# Altium integrated library ICs.IntLib: 27 symbols
Pins are listed as number, name and electrical type; pins without a type are passive.

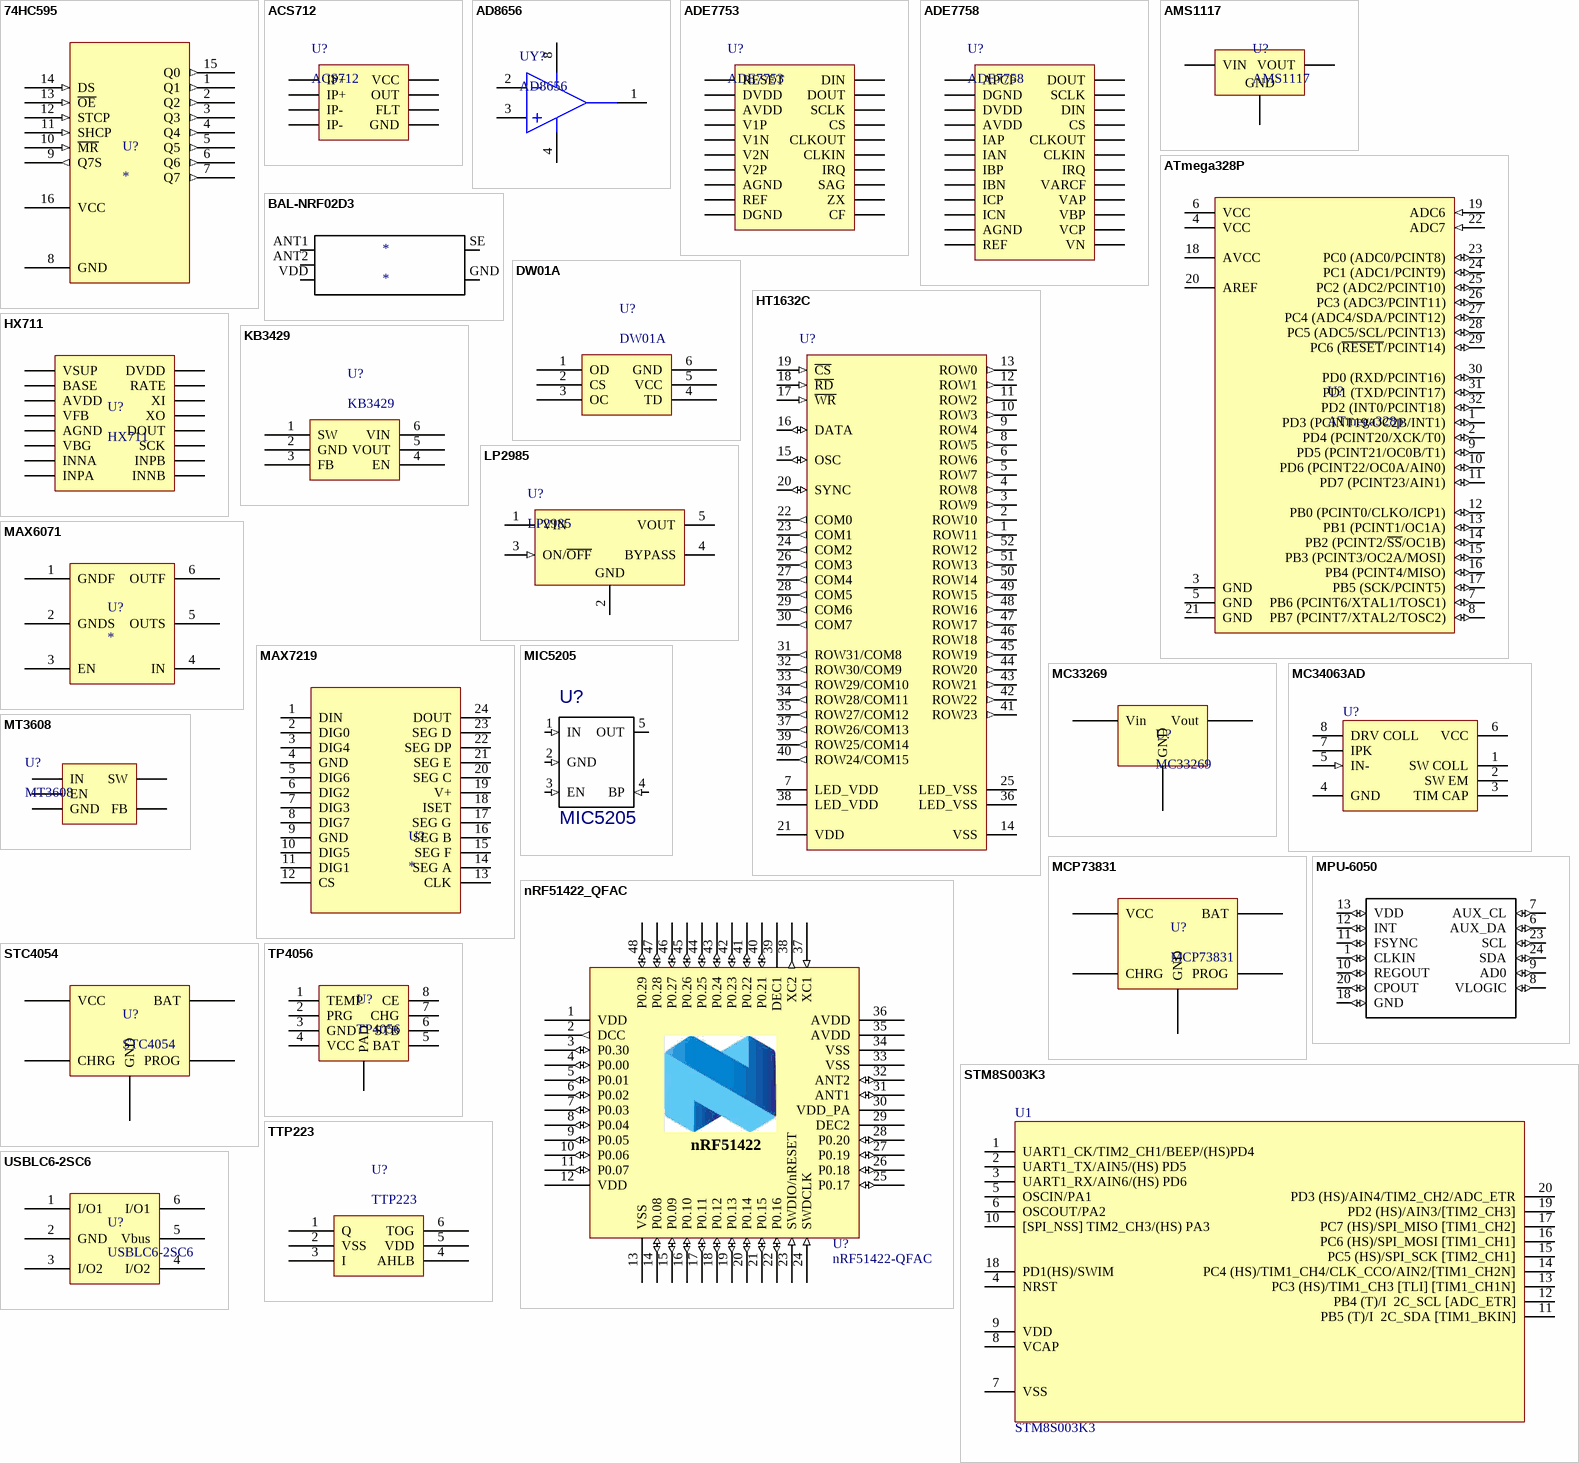
[diagram p0: symbols 74HC595 to USBLC6-2SC6]

## 74HC595
designator U?
Shift register
footprint TSOP-16 M (TSOP, 16-Leads, Body 5.00x4.40mm, Pitch 0.65mm, IPC Low Density)
pins: 1 Q1 (out), 2 Q2 (out), 3 Q3 (out), 4 Q4 (out), 5 Q5 (out), 6 Q6 (out), 7 Q7 (out), 8 GND (power), 9 Q7S (out), 10 ~{MR} (in), 11 SHCP (in), 12 STCP (in), 13 ~{OE} (in), 14 DS (in), 15 Q0 (out), 16 VCC (power)

## ACS712
designator U?
Current sensor based on Hall effect
footprint SOIC-8 N (SOIC, 8-Leads, Body 4.9x3.9mm, Pitch 1.27mm, IPC Medium Density)
pins: 1 IP+, 2 IP+, 3 IP-, 4 IP-, 5 GND, 6 FLT, 7 OUT, 8 VCC

## AD8656
designator UY?
Ultrafast, Single-Supply Comparator, 3 to 5 V, 5.5 ns Delay, Industrial, 8-pin SOIC (R-8), Reel
footprint SOIC-8 N (SOIC, 8-Leads, Body 4.9x3.9mm, Pitch 1.27mm, IPC Medium Density)
pins: 1 Out A "One of Two Complementary Output for Channel A.", 2 -IN A "Inverting Analog Input of the Differential Input Stage.", 3 +IN A "Noninverting Analog Input of the Differential Input Stage.", 4 V- (power) "Negative Logic Supply", 8 V+ (power) "Positive Supply Terminal."

## ADE7753
designator U?
Single phase power measuring IC
footprint TSSOP-20 L (TSOP, 20-Leads, Body 6.5x4.4mm, Pitch 0.65mm, IPC High Density)
pins: 1 RESET, 2 DVDD, 3 AVDD, 4 V1P, 5 V1N, 6 V2N, 7 V2P, 8 AGND, 9 REF, 10 DGND, 11 CF, 12 ZX, 13 SAG, 14 IRQ, 15 CLKIN, 16 CLKOUT, 17 CS, 18 SCLK, 19 DOUT, 20 DIN

## ADE7758
designator U?
3-phase power measuring IC
footprint SOIC-24 N wide (SOIC, 24-Leads, Body 15.4x7.5mm, Pitch 1.27mm, IPC Low Density)
pins: 1 APCF, 2 DGND, 3 DVDD, 4 AVDD, 5 IAP, 6 IAN, 7 IBP, 8 IBN, 9 ICP, 10 ICN, 11 AGND, 12 REF, 13 VN, 14 VCP, 15 VBP, 16 VAP, 17 VARCF, 18 IRQ, 19 CLKOUT, 20 CLKIN, 21 CS, 22 DIN, 23 SCLK, 24 DOUT

## AMS1117
designator U?
Linear voltage stabiliser ic
footprint SOT223 N (SOT223, 4-Leads, Body 6.5x3.5mm, Pitch 2.3mm, IPC Low Density)
pins: 1 GND (power), 2 VOUT (power), 3 VIN (power)
1 alternate drawing of the same symbol

## ATmega328P
designator U?, comment ATmega328p
Atmel AVR MCU 32kb flash, 2kb RAM
footprint TQFP-32 M (Thin QFP, 32-Leads, Body 7x7mm, Pitch 0.8mm, IPC Low Density)
pins: 1 PD3 (PCINT19/OC2B/INT1) (io), 2 PD4 (PCINT20/XCK/T0) (io), 3 GND (power), 4 VCC (power), 5 GND (power), 6 VCC (power), 7 PB6 (PCINT6/XTAL1/TOSC1) (io), 8 PB7 (PCINT7/XTAL2/TOSC2) (io), 9 PD5 (PCINT21/OC0B/T1) (io), 10 PD6 (PCINT22/OC0A/AIN0) (io), 11 PD7 (PCINT23/AIN1) (io), 12 PB0 (PCINT0/CLKO/ICP1) (io), 13 PB1 (PCINT1/OC1A) (io), 14 PB2 (PCINT2/~{SS}/OC1B) (io), 15 PB3 (PCINT3/OC2A/MOSI) (io), 16 PB4 (PCINT4/MISO) (io), 17 PB5 (SCK/PCINT5) (io), 18 AVCC (power), 19 ADC6 (in), 20 AREF, 21 GND (power), 22 ADC7 (in), 23 PC0 (ADC0/PCINT8) (io), 24 PC1 (ADC1/PCINT9) (io), 25 PC2 (ADC2/PCINT10) (io), 26 PC3 (ADC3/PCINT11) (io), 27 PC4 (ADC4/SDA/PCINT12) (io), 28 PC5 (ADC5/SCL/PCINT13) (io), 29 PC6 (~{RESET}/PCINT14) (io), 30 PD0 (RXD/PCINT16) (io), 31 PD1 (TXD/PCINT17) (io), 32 PD2 (INT0/PCINT18) (io)

## BAL-NRF02D3
designator *
Balun for NRF51422
footprint BAL-NRF02D3
pins: ANT1 (io), ANT2 (io), GND (io), SE (io), VDD VDD_PA (io)
1 alternate drawing of the same symbol

## DW01A
designator U?
li battery protection ic
footprint SOT23-6 N (SOT23, 6-Leads, Body 2,90x2,45mm, Pitch 0,95mm, IPC Medium Density)
pins: 1 OD, 2 CS (power), 3 OC, 4 TD, 5 VCC, 6 GND (power)

## HT1632C
designator U?
Led matrix driver24x16
footprint QFP-52 l (QFP, 52-Leads, Body 14x14mm, Pitch 1mm, IPC High Density)
footprint QFP-52 M (QFP, 52-Leads, Body 14x14mm, Pitch 1mm, IPC Low Density)
footprint QFP-52 N (QFP, 52-Leads, Body 14x14mm, Pitch 1mm, IPC Medium Density)
pins: 1 ROW11 (out), 2 ROW10 (out), 3 ROW9 (out), 4 ROW8 (out), 5 ROW7 (out), 6 ROW6 (out), 7 LED_VDD (power), 8 ROW5 (out), 9 ROW4 (out), 10 ROW3 (out), 11 ROW2 (out), 12 ROW1 (out), 13 ROW0 (out), 14 VSS (power), 15 OSC (io), 16 DATA (io), 17 ~{WR} (in), 18 ~{RD} (in), 19 ~{CS} (in), 20 SYNC (io), 21 VDD (power), 22 COM0 (out), 23 COM1 (out), 24 COM2 (out), 25 LED_VSS (power), 26 COM3 (out), 27 COM4 (out), 28 COM5 (out), 29 COM6 (out), 30 COM7 (out), 31 ROW31/COM8 (out), 32 ROW30/COM9 (out), 33 ROW29/COM10 (out), 34 ROW28/COM11 (out), 35 ROW27/COM12 (out), 36 LED_VSS (power), 37 ROW26/COM13 (out), 38 LED_VDD (power), 39 ROW25/COM14 (out), 40 ROW24/COM15 (out), 41 ROW23 (out), 42 ROW22 (out), 43 ROW21 (out), 44 ROW20 (out), 45 ROW19 (out), 46 ROW18 (out), 47 ROW17 (out), 48 ROW16 (out), 49 ROW15 (out), 50 ROW14 (out), 51 ROW13 (out), 52 ROW12 (out)

## HX711
designator U?
Scale sensor ADC
footprint SOP-16 N
pins: 1 VSUP, 2 BASE, 3 AVDD, 4 VFB, 5 AGND, 6 VBG, 7 INNA, 8 INPA, 9 INNB, 10 INPB, 11 SCK, 12 DOUT, 13 XO, 14 XI, 15 RATE, 16 DVDD

## KB3429
designator U?
(HXN-Xh) dc-dc step up
footprint SOT23-6 N (SOT23, 6-Leads, Body 2,90x2,45mm, Pitch 0,95mm, IPC Medium Density)
pins: 1 SW, 2 GND (power), 3 FB, 4 EN, 5 VOUT, 6 VIN (power)

## LP2985
designator U?
Single Output Low Noise LDO, 150 mA, Fixed 3.3 V Output, 2.2 to 16 V Input, with Low IQ, 5-pin SOT-23 (DBV), -40 to 125 degC, Green (RoHS & no Sb/Br); Manufacturer: Texas Instruments; PartNumber: LP2985-33DBVR; Accuracy(%): 1.5; Fixed Output Options(V): 10; Iout(Max)(A): 0.15; Iq(Typ)(mA): 0.85; SubFamily: Single Channel LDO; Vdo(Typ)(mV): 280; Vin(Max)(V): 16; Vin(Min)(V): 2.2; Vout Adj(Max)(V): 3.3; DatasheetVersion: SLVS522N; PackageVersion: 4073253-4/K; PackageReference: DBV5; PackageDescription: 5-Pin Plastic Small Outline, Body 1.60 Г— 2.90 mm, Pitch 0.95 mm; Supplier 1: Digi-Key; Supplier Part Number 1: 296-24263-1-ND; Supplier 2: Digi-Key; Supplier Part Number 2: 296-24263-6-ND; Supplier 3: Newark; Supplier Part Number 3: 24R9588; Supplier 4: Mouser; Supplier Part Number 4: 595-LP2985-33DBVR; Eco-Plan: Green (RoHS & no Sb/Br); Vout Adj(Min)(V): 3.3; Mounting Technology: Surface Mount; Code_JEDEC: MO-178; ComponentLink1Description: Manufacturer URL; ComponentLink1URL: http://www.ti.com/; ComponentLink2Description: Datasheet; ComponentLink2URL: http://www.ti.com/general/docs/lit/getliterature.tsp?genericPartNumber=LP2985-10&fileType=pdf; ComponentLink3Description: Package Specification; ComponentLink3URL: http://www.ti.com/litv/pdf/mpds018i
footprint TI-DBV5_N (SOT23, 5-Leads, Body 2.9x1.6mm, Pitch 0.95mm, IPC Medium Density)
footprint TI-DBV5_M (SOT23, 5-Leads, Body 2.9x1.6mm, Pitch 0.95mm, IPC Low Density)
footprint TI-DBV5_L (SOT23, 5-Leads, Body 2.9x1.6mm, Pitch 0.95mm, IPC High Density)
pins: 1 VIN (power), 2 GND (power), 3 ON/~{OFF} (in), 4 BYPASS, 5 VOUT (power)

## MAX6071
designator U?
Voltage reference
footprint SOT23-6 N (SOT23, 6-Leads, Body 2,90x2,45mm, Pitch 0,95mm, IPC Medium Density)
pins: 1 GNDF, 2 GNDS, 3 EN, 4 IN, 5 OUTS, 6 OUTF

## MAX7219
designator U?
LED matrix driver
footprint SOIC-24 (SOIC, 24-Leads, Body 15.4x7.5mm, Pitch 1.27mm, IPC Low Density)
pins: 1 DIN, 2 DIG0, 3 DIG4, 4 GND, 5 DIG6, 6 DIG2, 7 DIG3, 8 DIG7, 9 GND, 10 DIG5, 11 DIG1, 12 CS, 13 CLK, 14 SEG A, 15 SEG F, 16 SEG B, 17 SEG G, 18 ISET, 19 V+, 20 SEG C, 21 SEG E, 22 SEG DP, 23 SEG D, 24 DOUT

## MC33269
designator U?
Linear voltage regulator 800mA
footprint TO-252-2 N (DPAK-2) (D-PAK, 4-Leads, Body 6.1x6.5mm, Pitch 2.28mm, Lead Span 9.7mm, IPC Medium Density)
pins: 1 GND, 2 Vout, 3 Vin

## MC34063AD
designator U?
DC-to-DC Converter Control Circuit; Published: 15-Apr-2002; LatestRevisionDate: 13-Apr-2006; LatestRevisionNote: IPC-7351 Footprint Added.; DatasheetVersion: 1996; PackageVersion: 1998; PackageReference: 751-05; Publisher: Altium Limited; PackageDescription: 8-Pin Small Outline Integrated Circuit 1.27 mm Pitch; Code_JEDEC: MS-012-AA; Code_IPC: SOIC127P600-8; ComponentLink1Description: Manufacturer Link; ComponentLink1URL: http://www.onsemi.com/site/products/taxonomy/0,4438,503,00.html; ComponentLink2Description: Datasheet; ComponentLink2URL: http://www.onsemi.com/pub/Collateral/MC34063A-D.PDF
footprint SOIC-8 N (SOIC, 8-Leads, Body 4.9x3.9mm, Pitch 1.27mm, IPC Medium Density)
pins: 1 SW COLL, 2 SW EM, 3 TIM CAP, 4 GND (power), 5 IN- (in), 6 VCC (power), 7 IPK, 8 DRV COLL (oc)

## MCP73831
designator U?
Linear Li-ion battery charger
footprint SOT23-5 M (SOT23, 5-Leads, Body 2.9x1.6mm, Pitch 0.95mm, Lead Span 2.8mm, IPC Low Density)
footprint SOT23-5 N (SOT23, 5-Leads, Body 2.9x1.6mm, Pitch 0.95mm, Lead Span 2.8mm, IPC Medium Density)
pins: 1 CHRG, 2 GND, 3 BAT, 4 VCC, 5 PROG

## MIC5205
designator U?
Linear voltage regulator (KB33); Value: *
footprint SOT23-5 M (SOT23, 5-Leads, Body 2.9x1.6mm, Pitch 0.95mm, Lead Span 2.8mm, IPC Low Density)
footprint SOT23-5 N (SOT23, 5-Leads, Body 2.9x1.6mm, Pitch 0.95mm, Lead Span 2.8mm, IPC Medium Density)
pins: 1 IN (in), 2 GND (in), 3 EN (in), 4 BP (in), 5 OUT

## MPU-6050
designator ?  (value not drawn)
Gyroscope and accelerometer IC; Value: MPU-6050
footprint QFN-24 N pad
pins: 0 hidden to 18, 1 CLKIN (io), 6 AUX_DA (io), 7 AUX_CL (io), 8 VLOGIC (io), 9 AD0 (io), 10 REGOUT (io), 11 FSYNC (io), 12 INT (io), 13 VDD (io), 18 GND (io), 20 CPOUT (io), 23 SCL (io), 24 SDA (io)

## MT3608
designator U?
Step up DC-DC converter; Value: MT3608
footprint SOT23-6 N (SOT23, 6-Leads, Body 2,90x2,45mm, Pitch 0,95mm, IPC Medium Density)
pins: 1 SW, 2 GND, 3 FB, 4 EN, 5 IN

## nRF51422_QFAC
designator U?, comment nRF51422-QFAC
Bluetooth Low Energy, ANT and 2.4GHz proprietary system-on-chip; Part Number: nRF51422-QFAC-XLR3+; Manufacturer: Nordic Semiconductor; Manufacturer Part Number: nRF51422-QFACAx; Note: nRF51422 - QFN48 6x6 0.4mm pitch; Artikkelnr Noca: 15079264; Artikkelnr Simpro: N.A.; Datasheet: *; LatestRevisionDate: 2014-09-17; Pin Count: 48; Publisher: Nordic Semiconductor; Published: 2014-06-04; Value: nRF51422-QFAC; Supplier: Nordic Semiconductor; Supplier part number: *; 2nd source Supplier: *; 2nd source part number: *; Footprint Doc: QFN-48
footprint QFN-48 N pad
pins: 1 VDD (power), 2 DCC (out), 3 P0.30 (io), 4 P0.00 (io), 5 P0.01 (io), 6 P0.02 (io), 7 P0.03 (io), 8 P0.04 (io), 9 P0.05 (io), 10 P0.06 (io), 11 P0.07 (io), 12 VDD (power), 13 VSS (power), 14 P0.08 (io), 15 P0.09 (io), 16 P0.10 (io), 17 P0.11 (io), 18 P0.12 (io), 19 P0.13 (io), 20 P0.14 (io), 21 P0.15 (io), 22 P0.16 (io), 23 SWDIO/nRESET (in), 24 SWDCLK (in), 25 P0.17 (io), 26 P0.18 (io), 27 P0.19 (io), 28 P0.20 (io), 29 DEC2 (power), 30 VDD_PA (power), 31 ANT1 (io), 32 ANT2 (io), 33 VSS (power), 34 VSS (power), 35 AVDD (power), 36 AVDD (power), 37 XC1 (in), 38 XC2 (out), 39 DEC1 (power), 40 P0.21 (io), 41 P0.22 (io), 42 P0.23 (io), 43 P0.24 (io), 44 P0.25 (io), 45 P0.26 (io), 46 P0.27 (io), 47 P0.28 (io), 48 P0.29 (io), 49 (power) hidden to GND
text: nRF51422

## STC4054
designator U?
Linear Li-ion battery charger
footprint SOT23-5 M (SOT23, 5-Leads, Body 2.9x1.6mm, Pitch 0.95mm, Lead Span 2.8mm, IPC Low Density)
footprint SOT23-5 N (SOT23, 5-Leads, Body 2.9x1.6mm, Pitch 0.95mm, Lead Span 2.8mm, IPC Medium Density)
pins: 1 CHRG, 2 GND, 3 BAT, 4 VCC, 5 PROG

## STM8S003K3
designator U1
STM8 MCU
footprint TSSOP-20 L (TSOP, 20-Leads, Body 6.5x4.4mm, Pitch 0.65mm, IPC High Density)
pins: 1 UART1_CK/TIM2_CH1/BEEP/(HS)PD4, 2 UART1_TX/AIN5/(HS) PD5, 3 UART1_RX/AIN6/(HS) PD6, 4 NRST, 5 OSCIN/PA1, 6 OSCOUT/PA2, 7 VSS, 8 VCAP, 9 VDD, 10 [SPI_NSS] TIM2_CH3/(HS) PA3, 11 PB5 (T)/I  2C_SDA [TIM1_BKIN], 12 PB4 (T)/I  2C_SCL [ADC_ETR], 13 PC3 (HS)/TIM1_CH3 [TLI] [TIM1_CH1N], 14 PC4 (HS)/TIM1_CH4/CLK_CCO/AIN2/[TIM1_CH2N], 15 PC5 (HS)/SPI_SCK [TIM2_CH1], 16 PC6 (HS)/SPI_MOSI [TIM1_CH1], 17 PC7 (HS)/SPI_MISO [TIM1_CH2], 18 PD1(HS)/SWIM, 19 PD2 (HS)/AIN3/[TIM2_CH3], 20 PD3 (HS)/AIN4/TIM2_CH2/ADC_ETR

## TP4056
designator U?
Li battery charger IC
footprint SOP-8 N pad (TSOP, 8-Leads, Body 4,90x3,95mm, Pitch 1,27mm, Thermal Pad 4,00x2,10mm, IPC Medium Density)
pins: 1 TEMP "Power supply (2.7V to 5.5V).", 2 PRG "Under-voltage detection input.", 3 GND (power) "Input for external resistor that sets the current for the MAIN LED channel.", 4 VCC (power) "No connection.", 5 BAT "No connection.", 6 STB "Connect to ground.", 7 CHG "MAIN channel constant current source. Connect to cathode of MAIN LED.", 8 CE "SUB channel current sink. Connect to cathode of D1 (Zener diode) connected to cathode of SUB LED.", PAD

## TTP223
designator U?
Capacitive touch IC
footprint SOT23-6 N (SOT23, 6-Leads, Body 2,90x2,45mm, Pitch 0,95mm, IPC Medium Density)
pins: 1 Q, 2 VSS (power), 3 I, 4 AHLB, 5 VDD, 6 TOG (power)

## USBLC6-2SC6
designator U?
ESD protection for USB
footprint SOT23-6 N (SOT23, 6-Leads, Body 2,90x2,45mm, Pitch 0,95mm, IPC Medium Density)
pins: 1 I/O1, 2 GND, 3 I/O2, 4 I/O2, 5 Vbus, 6 I/O1